# Altium footprint library CBR06C259B5GAC.PcbLib: 3 footprints
Each footprint in its own frame and in the unit in brackets; x right, y up, seen from the top. Pads: shape width x height; smd on the part's side, far side on the other; paste and mask are expansions set on the pad; w line width, h text height; cw(c..) or ccw(c..) is an arc to the next point about the centre after c.
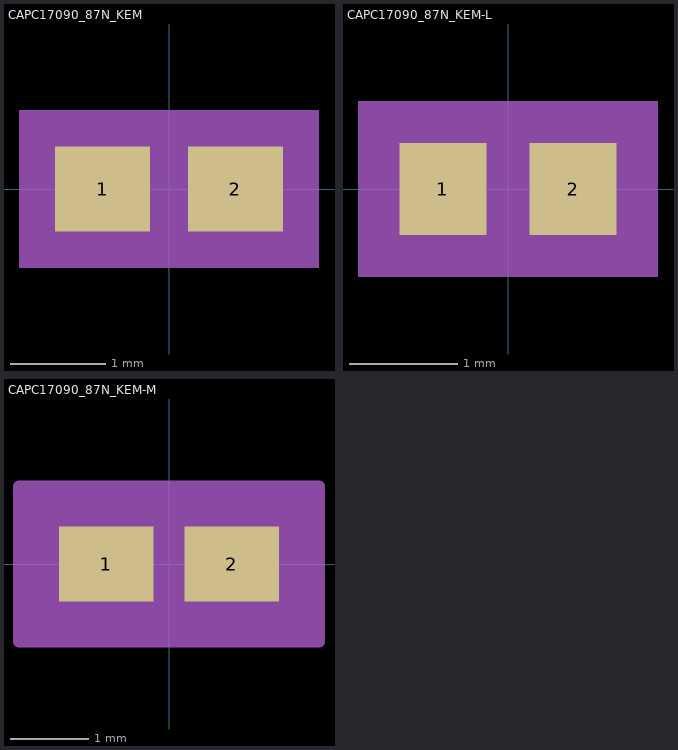
[diagram p0: the footprints below, top view; thin cyan lines are the x and y axes]

## CAPC17090_87N_KEM [mm]
pads (2):
  rect 1x0.9 smd paste+0 mask+0: 1(-0.7,0) 2(0.7,0)
Mechanical 5:
  region: 1.581,-0.831 -1.581,-0.831 -1.581,0.831 1.581,0.831
Mechanical 13:
  lines w0.025: -0.85,-0.45 -0.85,0.45 ; -0.85,-0.45 -0.3,-0.45 -0.3,0.45 -0.85,0.45 ; -0.85,-0.45 0.85,-0.45 ; -0.85,-0.45 -0.85,0.45 ; -0.85,0.45 0.85,0.45 ; 0.85,-0.45 0.3,-0.45 0.3,0.45 0.85,0.45 ; 0.85,-0.45 0.85,0.45 ; 0.85,-0.45 0.85,0.45
Mechanical 15:
  region: 1.454,-0.704 -1.454,-0.704 -1.454,0.704 1.454,0.704
  lines w0.152: -1.454,-0.704 -1.454,0.704 1.454,0.704 1.454,-0.704 -1.454,-0.704
3D body "CAPC17090_87N_KEM.step": height 0.87, standoff 0, extent -0.85,-0.45 0.85,0.45

## CAPC17090_87N_KEM-L [mm]
pads (2):
  rect 0.8x0.85 smd paste+0 mask+0: 1(-0.6,0) 2(0.6,0)
Mechanical 5:
  region: 1.381,-0.806 -1.381,-0.806 -1.381,0.806 1.381,0.806
Mechanical 13:
  lines w0.025: -0.85,-0.45 -0.85,0.45 ; -0.85,-0.45 -0.3,-0.45 -0.3,0.45 -0.85,0.45 ; -0.85,-0.45 0.85,-0.45 ; -0.85,-0.45 -0.85,0.45 ; -0.85,0.45 0.85,0.45 ; 0.85,-0.45 0.3,-0.45 0.3,0.45 0.85,0.45 ; 0.85,-0.45 0.85,0.45 ; 0.85,-0.45 0.85,0.45
Mechanical 15:
  region: 1.102,-0.527 -1.102,-0.527 -1.102,0.527 1.102,0.527
  lines w0.152: -1.102,-0.527 -1.102,0.527 1.102,0.527 1.102,-0.527 -1.102,-0.527
3D body "CAPC17090_87N_KEM.step": height 0.87, standoff 0, extent -0.85,-0.45 0.85,0.45

## CAPC17090_87N_KEM-M [mm]
pads (2):
  rect 1.2x0.95 smd paste+0 mask+0: 1(-0.8,0) 2(0.8,0)
Mechanical 5:
  region: 1.781,-0.856 -1.781,-0.856 -1.781,0.856 1.781,0.856
Mechanical 13:
  lines w0.025: -0.85,-0.45 -0.85,0.45 ; -0.85,-0.45 -0.3,-0.45 -0.3,0.45 -0.85,0.45 ; -0.85,-0.45 0.85,-0.45 ; -0.85,-0.45 -0.85,0.45 ; -0.85,0.45 0.85,0.45 ; 0.85,-0.45 0.3,-0.45 0.3,0.45 0.85,0.45 ; 0.85,-0.45 0.85,0.45 ; 0.85,-0.45 0.85,0.45
Mechanical 15:
  region: 1.908,-0.983 -1.908,-0.983 -1.908,0.983 1.908,0.983
  lines w0.152: -1.908,-0.983 -1.908,0.983 1.908,0.983 1.908,-0.983 -1.908,-0.983
3D body "CAPC17090_87N_KEM.step": height 0.87, standoff 0, extent -0.85,-0.45 0.85,0.45